# Altium integrated library Capacitance.IntLib: 6 symbols
Pins are listed as number, name and electrical type; pins without a type are passive.

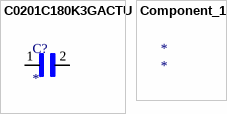
[diagram p0: symbols C0201C180K3GACTU to Component_1]

## C0201C180K3GACTU
designator C?
CAP CER 18PF 25V C0G/NP0 0201; MF: {'manufacturer': u'KEMET'}; MP: C0201C180K3GACTU; Value: *; Availability: Unavailable; Price: None; Package: None
footprint CAPC0603X33N
pins: 1, 2

## Component_1
designator *


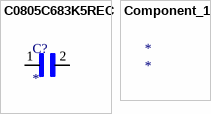
[diagram p1: symbols C0805C683K5REC to Component_1]

## C0805C683K5REC
designator C?
MF: {'manufacturer': u'KEMET'}; MP: C0805C683K5REC; Value: *; Availability: Unavailable; Price: None; Package: None
footprint CAPC2012X110N
pins: 1, 2

## Component_1
designator *


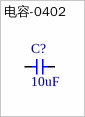
[diagram p2: symbol 电容-0402]

## 电容-0402
designator C?, comment 10uF
Capacitor; Value: 0.1u
footprint CAP_0402
pins: 1, 2


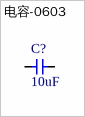
[diagram p3: symbol 电容-0603]

## 电容-0603
designator C?, comment 10uF
Capacitor; Value: 0.1u
footprint CAPC1608X87N
pins: 1, 2